# EAGLE library part 146134-24 (library con-tyco-mod-II)
HEADER
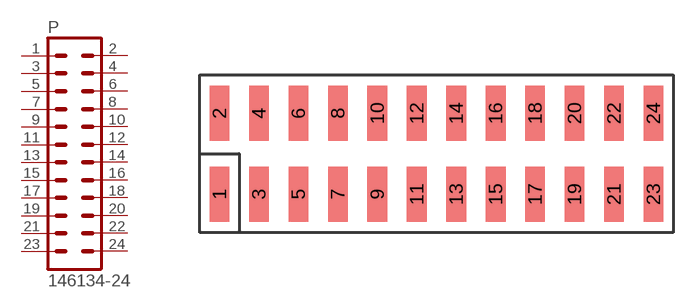
[diagram p9: symbol with the pads of 146134-24; footprint 146134-24]

Designator prefix P

## 146134-24  [146134-24]
1  1  pas
2  2  pas
3  3  pas
4  4  pas
5  5  pas
6  6  pas
7  7  pas
8  8  pas
9  9  pas
10  10  pas
11  11  pas
12  12  pas
13  13  pas
14  14  pas
15  15  pas
16  16  pas
17  17  pas
18  18  pas
19  19  pas
20  20  pas
21  21  pas
22  22  pas
23  23  pas
24  24  pas

## Footprint 146134-24 (pad centres in mm)
HEADER
smd 1.27 x 3.556: 1 -13.97,-2.603; 2 -13.97,2.603; 3 -11.43,-2.603; 4 -11.43,2.603; 5 -8.89,-2.603; 6 -8.89,2.603; 7 -6.35,-2.603; 8 -6.35,2.603; 9 -3.81,-2.603; 10 -3.81,2.603; 11 -1.27,-2.603; 12 -1.27,2.603; 13 1.27,-2.603; 14 1.27,2.603; 15 3.81,-2.603; 16 3.81,2.603; 17 6.35,-2.603; 18 6.35,2.603; 19 8.89,-2.603; 20 8.89,2.603; 21 11.43,-2.603; 22 11.43,2.603; 23 13.97,-2.603; 24 13.97,2.603